# Altium footprint library TE_CONN_8PCV-02-006.PcbLib: 1 footprints
Each footprint in its own frame and in the unit in brackets; x right, y up, seen from the top. Pads: shape width x height; smd on the part's side, far side on the other; paste and mask are expansions set on the pad; w line width, h text height; cw(c..) or ccw(c..) is an arc to the next point about the centre after c.
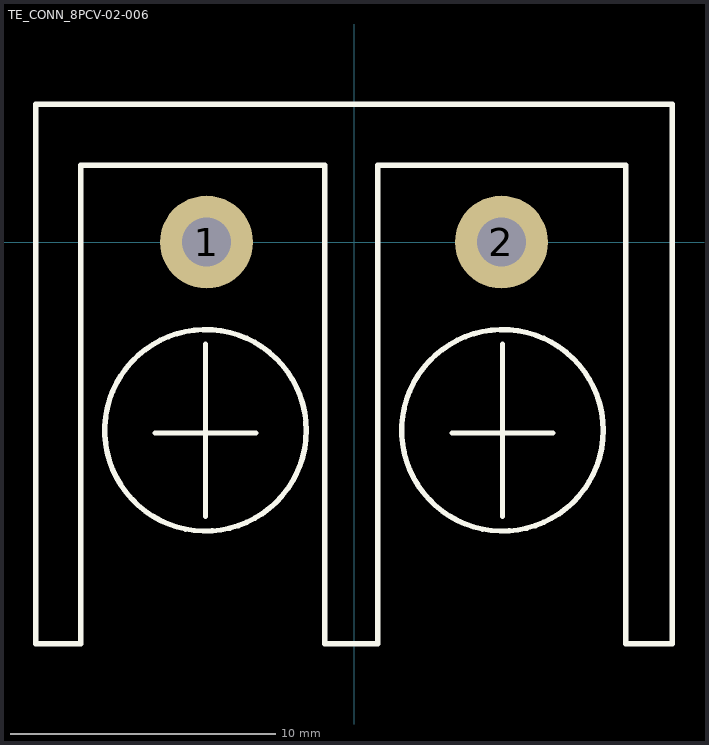
[diagram p0: the footprint, top view; thin cyan lines are the x and y axes]

## TE_CONN_8PCV-02-006 [mm]
pads (2):
  round 3.5 hole 1.85: 1(-5.56,0) 2(5.56,0)
Top Overlay:
  circle w0.2: c-5.6,-7.1 r3.8
  circle w0.2: c5.6,-7.1 r3.8
  lines w0.2: -7.5,-7.2 -3.7,-7.2 ; -5.6,-10.35 -5.6,-3.85 ; 3.7,-7.2 7.5,-7.2 ; 5.6,-10.35 5.6,-3.85 ; -12,-15.15 -10.3,-15.15 -10.3,2.9 -1.1,2.9 -1.1,-15.15 0.9,-15.15 0.9,2.9 10.25,2.9 10.25,-15.15 12,-15.15 12,5.2 -12,5.2 -12,-15.15
3D body "TE_CONN_8PCV-02-006.stp": height 19.56, standoff -4.7, extent -12.039,-15.15 12.04,5.17